# EAGLE library part STM32DISCOVERY (library STM32DISCOVERY)
Used to generate a footprint of the STM32-DISCOVERY board that can be directly mapped to your custom pcb
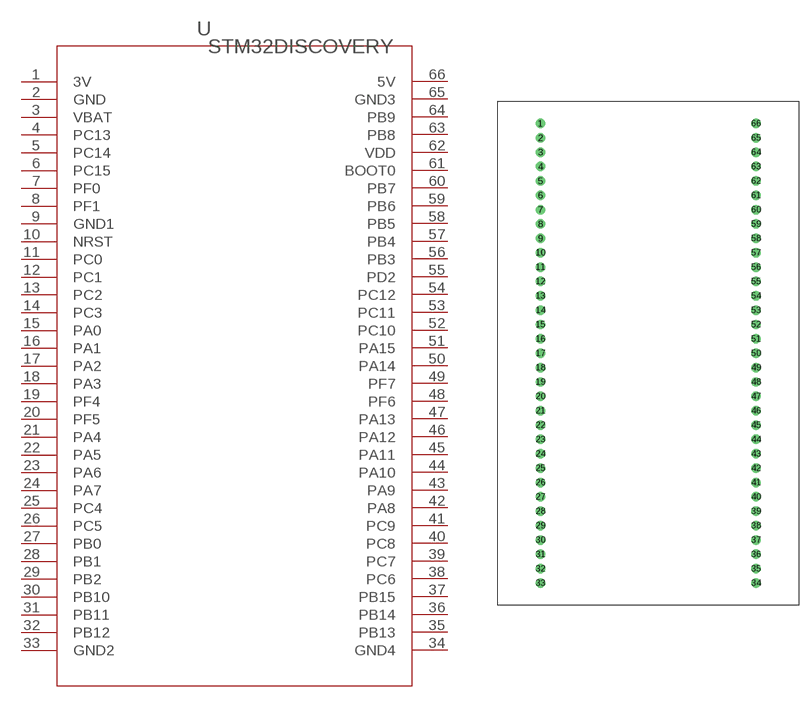
[diagram p0: symbol with the pads of STMDISCOVERYBOARD; footprint STMDISCOVERYBOARD]

Designator prefix -

## STM32DISCOVERY (AUTHOR: Richard Rao)  [STMDISCOVERYBOARD]
1  3V  pwr
2  GND  pwr
3  VBAT  pwr
4  PC13
5  PC14
6  PC15
7  PF0
8  PF1
9  GND1  pwr
10  NRST
11  PC0
12  PC1
13  PC2
14  PC3
15  PA0
16  PA1
17  PA2
18  PA3
19  PF4
20  PF5
21  PA4
22  PA5
23  PA6
24  PA7
25  PC4
26  PC5
27  PB0
28  PB1
29  PB2
30  PB10
31  PB11
32  PB12
33  GND2  pwr
34  GND4  pas
35  PB13
36  PB14
37  PB15
38  PC6
39  PC7
40  PC8
41  PC9
42  PA8
43  PA9
44  PA10
45  PA11
46  PA12
47  PA13
48  PF6
49  PF7
50  PA14
51  PA15
52  PC10
53  PC11
54  PC12
55  PD2
56  PB3
57  PB4
58  PB5
59  PB6
60  PB7
61  BOOT0  in
62  VDD  pwr
63  PB8
64  PB9
65  GND3  pwr
66  5V  pas

## Footprint STMDISCOVERYBOARD (pad centres in mm)
drill 1 pad 1.676: 1 7.62,85.09; 2 7.62,82.55; 3 7.62,80.01; 4 7.62,77.47; 5 7.62,74.93; 6 7.62,72.39; 7 7.62,69.85; 8 7.62,67.31; 9 7.62,64.77; 10 7.62,62.23; 11 7.62,59.69; 12 7.62,57.15; 13 7.62,54.61; 14 7.62,52.07; 15 7.62,49.53; 16 7.62,46.99; 17 7.62,44.45; 18 7.62,41.91; 19 7.62,39.37; 20 7.62,36.83; 21 7.62,34.29; 22 7.62,31.75; 23 7.62,29.21; 24 7.62,26.67; 25 7.62,24.13; 26 7.62,21.59; 27 7.62,19.05; 28 7.62,16.51; 29 7.62,13.97; 30 7.62,11.43; 31 7.62,8.89; 32 7.62,6.35; 33 7.62,3.81; 34 45.72,3.81; 35 45.72,6.35; 36 45.72,8.89; 37 45.72,11.43; 38 45.72,13.97; 39 45.72,16.51; 40 45.72,19.05; 41 45.72,21.59; 42 45.72,24.13; 43 45.72,26.67; 44 45.72,29.21; 45 45.72,31.75; 46 45.72,34.29; 47 45.72,36.83; 48 45.72,39.37; 49 45.72,41.91; 50 45.72,44.45; 51 45.72,46.99; 52 45.72,49.53; 53 45.72,52.07; 54 45.72,54.61; 55 45.72,57.15; 56 45.72,59.69; 57 45.72,62.23; 58 45.72,64.77; 59 45.72,67.31; 60 45.72,69.85; 61 45.72,72.39; 62 45.72,74.93; 63 45.72,77.47; 64 45.72,80.01; 65 45.72,82.55; 66 45.72,85.09